# Altium integrated library Analog Devices RF IF Direct Digital Synthesis.IntLib: 76 symbols (part 7 of 9)
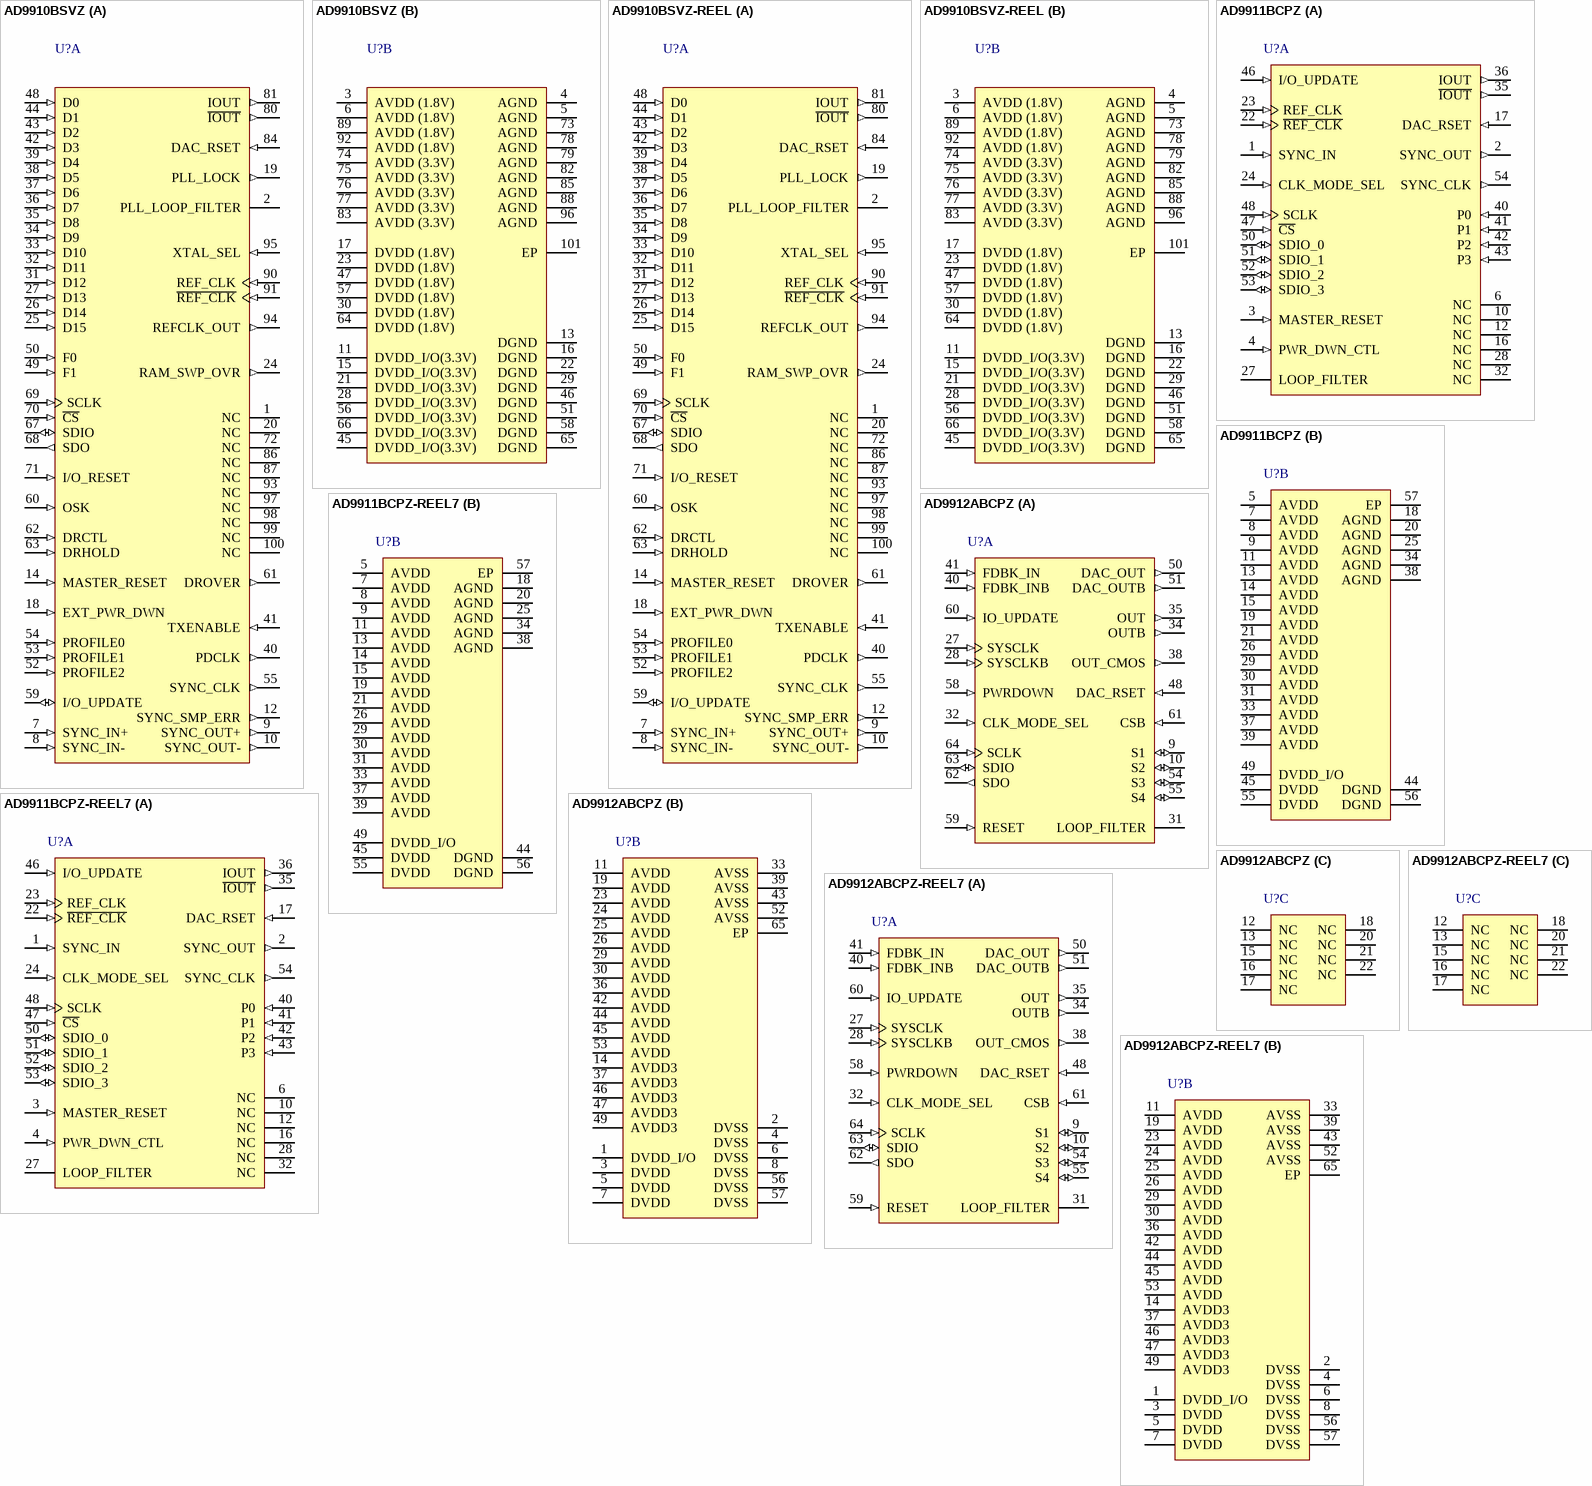
[diagram p11: symbols AD9910BSVZ to AD9912ABCPZ-REEL7]

## AD9911BCPZ-REEL7
designator U?
500 MSPS Direct Digital Synthesizer with 10-Bit DAC, Serial, CP-56-1, 750 Reel, Pb-Free; Master fclk: 500MHz; Resolution (Bits): 10bit; Tuning Word Width (bits): 32bit; REFCLK Multiplier: Yes; Compliance Range (V): 1.8V; FS Iout (mA nom): 10mA; I Supply total (max): 73mA; DatasheetVersion: Rev. 0; PackageVersion: 112805-0; PackageReference: CP-56-1; PackageDescription: 56-Lead Lead Frame Chip Scale Package [LFCSP_VQ]; I/O Interface: Serial; Code_JEDEC: MO-220-VLLD-2; ComponentLink1Description: Manufacturer URL; ComponentLink1URL: www.analog.com; ComponentLink2Description: Datasheet; ComponentLink2URL: http://www.analog.com/static/imported-files/data_sheets/AD9911.pdf; ComponentLink3Description: Package Specification; ComponentLink3URL: http://www.analog.com/static/imported-files/packages/32698137492825CP_56_1.pdf
footprint ADI-CP-56-1_N (QFN, 56-Leads, Body 8x8mm, Pitch 0.5mm, Thermal Pad 6.1x6.1mm, IPC Medium Density)
footprint ADI-CP-56-1_L (QFN, 56-Leads, Body 8x8mm, Pitch 0.5mm, Thermal Pad 6.1x6.1mm, IPC High Density)
footprint ADI-CP-56-1_M (QFN, 56-Leads, Body 8x8mm, Pitch 0.5mm, Thermal Pad 6.1x6.1mm, IPC Low Density)
part A pins: 1 SYNC_IN (in) "Synchronizes Multiple AD9911 Devices. Connects to the SYNC_OUT pin of the master AD9911 device.", 2 SYNC_OUT (out) "Synchronizes Multiple AD9911 Devices. Connects to the SYNC_IN pin of the slave AD9911 device.", 3 MASTER_RESET (in) "Active High Reset Pin. Asserting this pin forces the internal registers to the default state shown in the Register Map section.", 4 PWR_DWN_CTL (in) "External Power-Down Control. See the Power Down Functions section for details.", 6 NC "No Connection. Analog Devices recommends leaving these pins floating.", 10 NC "No Connection. Analog Devices recommends leaving these pins floating.", 12 NC "No Connection. Analog Devices recommends leaving these pins floating.", 16 NC "No Connection. Analog Devices recommends leaving these pins floating.", 17 DAC_RSET (in) "Establishes the Reference Current for the DAC. A 1.91 k ohm resistor (nominal) is connected from Pin 17 to AGND.", 22 ~{REF_CLK} (in) "Complementary Reference Clock/Oscillator Input. When the REF_CLK is operated in single-ended mode, this pin should be decoupled to AVDD or AGND with a  0.1 uF capacitor.", 23 REF_CLK (in) "Reference Clock/Oscillator Input. When the REF_CLK operates in single-ended mode, Pin 23 is the input. See the Modes of Operation section for the reference clock configuration.", 24 CLK_MODE_SEL (in) "Control Pin for the Oscillator. CAUTION: Do not drive this pin beyond 1.8 V. When high (1.8 V), the oscillator is enabled to accept a crystal as the REF_CLK source. [see datasheet]", 27 LOOP_FILTER "Connects to the External Zero Compensation Network of the PLL Loop Filter. Typically, the network consists of a 0  ohm resistor in series with a 680 pF capacitor tied to AVDD.", 28 NC "No Connection. Analog Devices recommends leaving these pins floating.", 32 NC "No Connection. Analog Devices recommends leaving these pins floating.", 35 ~{IOUT} (out) "Complementary DAC Output. Terminates into AVDD.", 36 IOUT (out) "True DAC Output. Terminates into AVDD.", 40 P0 (in) "These data pins are used for modulation (FSK, PSK, ASK), start/stop for the sweep accumulator, and ramping up/down the output amplitude. [see datasheet]", 41 P1 (in) "These data pins are used for modulation (FSK, PSK, ASK), start/stop for the sweep accumulator, and ramping up/down the output amplitude. [see datasheet]", 42 P2 (in) "These data pins are used for modulation (FSK, PSK, ASK), start/stop for the sweep accumulator, and ramping up/down the output amplitude. [see datasheet]", 43 P3 (in) "These data pins are used for modulation (FSK, PSK, ASK), start/stop for the sweep accumulator, and ramping up/down the output amplitude. [see datasheet]", 46 I/O_UPDATE (in) "A rising edge triggers data transfer from the I/O port buffer to active registers. I/O_UPDATE is synchronous to the SYNC_CLK (Pin 54). [see datasheet]", 47 ~{CS} (in) "The active low chip select allows multiple devices to share a common I/O bus (SPI).", 48 SCLK (in) "Data Clock for I/O Operations. Data bits are written on the rising edge of SCLK and read on the falling edge of SCLK.", 50 SDIO_0 (io) "Data pin SDIO_0 is dedicated to the I/O port only.", 51 SDIO_1 (io) "Data pins SDIO_1:3 can be used for the I/O port or to initiate a ramp up/ramp down (RU/RD) of the DAC output amplitude.", 52 SDIO_2 (io) "Data pins SDIO_1:3 can be used for the I/O port or to initiate a ramp up/ramp down (RU/RD) of the DAC output amplitude.", 53 SDIO_3 (io) "Data pins SDIO_1:3 can be used for the I/O port or to initiate a ramp up/ramp down (RU/RD) of the DAC output amplitude.", 54 SYNC_CLK (out) "The SYNC_CLK, which runs at ?the system clock rate, can be disabled. I/O_UPDATE and profile changes (Pin 40 to Pin 43) are synchronous to the SYNC_CLK. [see datasheet]"
part B pins: 5 AVDD (power) "Analog Power Supply Pins (1.8 V).", 7 AVDD (power) "Analog Power Supply Pins (1.8 V).", 8 AVDD (power) "Analog Power Supply Pins (1.8 V).", 9 AVDD (power) "Analog Power Supply Pins (1.8 V).", 11 AVDD (power) "Analog Power Supply Pins (1.8 V).", 13 AVDD (power) "Analog Power Supply Pins (1.8 V).", 14 AVDD (power) "Analog Power Supply Pins (1.8 V).", 15 AVDD (power) "Analog Power Supply Pins (1.8 V).", 18 AGND (power) "Analog Ground Pins.", 19 AVDD (power) "Analog Power Supply Pins (1.8 V).", 20 AGND (power) "Analog Ground Pins.", 21 AVDD (power) "Analog Power Supply Pins (1.8 V).", 25 AGND (power) "Analog Ground Pins.", 26 AVDD (power) "Analog Power Supply Pins (1.8 V).", 29 AVDD (power) "Analog Power Supply Pins (1.8 V).", 30 AVDD (power) "Analog Power Supply Pins (1.8 V).", 31 AVDD (power) "Analog Power Supply Pins (1.8 V).", 33 AVDD (power) "Analog Power Supply Pins (1.8 V).", 34 AGND (power) "Analog Ground Pins.", 37 AVDD (power) "Analog Power Supply Pins (1.8 V).", 38 AGND (power) "Analog Ground Pins.", 39 AVDD (power) "Analog Power Supply Pins (1.8 V).", 44 DGND (power) "Digital Power Ground Pins.", 45 DVDD (power) "Digital Power Supply Pins (1.8 V).", 49 DVDD_I/O (power) "3.3 V Digital Power Supply for SPI Port and Digital I/O.", 55 DVDD (power) "Digital Power Supply Pins (1.8 V).", 56 DGND (power) "Digital Power Ground Pins.", 57 EP (power) "exposed pad"

## AD9912ABCPZ
designator U?
1 GSPS Direct Digital Synthesizer with 14-Bit DAC, Serial, CP-64-7, 260 Tray, Pb-Free; Master fclk: 1GHz; Resolution (Bits): 14bit; Tuning Word Width (bits): 48bit; REFCLK Multiplier: Yes; Compliance Range (V): 500mV; FS Iout (mA nom): 20mA; I Supply total (max): 394mA; DatasheetVersion: Rev. F; PackageVersion: 062209-A; PackageReference: CP-64-7; PackageDescription: 64-Lead Lead Frame Chip Scale Package [LFCSP_VQ]; I/O Interface: Serial; Code_JEDEC: MO-220-VMMD-4; ComponentLink1Description: Manufacturer URL; ComponentLink1URL: www.analog.com; ComponentLink2Description: Datasheet; ComponentLink2URL: http://www.analog.com/static/imported-files/data_sheets/AD9912.pdf; ComponentLink3Description: Package Specification; ComponentLink3URL: http://www.analog.com/static/imported-files/packages/PKG_PDF/LFCSP(CP)/CP_64_7.pdf
footprint ADI-CP-64-7_N (QFN, 64-Leads, Body 9x9mm, Pitch 0.5mm, Thermal Pad 5.2x5.2mm, IPC Medium Density)
footprint ADI-CP-64-7_L (QFN, 64-Leads, Body 9x9mm, Pitch 0.5mm, Thermal Pad 5.2x5.2mm, IPC High Density)
footprint ADI-CP-64-7_M (QFN, 64-Leads, Body 9x9mm, Pitch 0.5mm, Thermal Pad 5.2x5.2mm, IPC Low Density)
part A pins: 9 S1 (io) "Start-Up Configuration Pins. These pins are configured under program control and do not have internal pull-up/pull-down resistors.", 10 S2 (io) "Start-Up Configuration Pins. These pins are configured under program control and do not have internal pull-up/pull-down resistors.", 27 SYSCLK (in) "System Clock Input. The system clock input has internal dc biasing and should always be ac-coupled, except when using a crystal. [see datasheet]", 28 SYSCLKB (in) "Complementary System Clock. Complementary signal to the input provided on Pin 27. Use a 0.01 uF capacitor to ground on this pin if the signal provided on Pin 27 is single-ended", 31 LOOP_FILTER "System Clock Multiplier Loop Filter. When using the frequency multiplier to drive the system clock, an external loop filter must be constructed and attached to this pin. [see datasheet]", 32 CLK_MODE_SEL (in) "Clock Mode Select. Set to GND when connecting a crystal to the system clock input (Pin 27 and Pin 28). Pull up to 1.8 V when using either an oscillator or an external clock source. [see datasheet]", 34 OUTB (out) "Complementary HSTL Output. See the Specifications and Primary 1.8 V Differential HSTL Driver sections for details", 35 OUT (out) "HSTL Output. See the Specifications and Primary 1.8 V Differential HSTL Driver sections for details", 38 OUT_CMOS (out) "CMOS Output. See the Specifications section and the Output Clock Drivers and 2x Frequency Multiplier section. This pin is 1.8 V CMOS if Pin 37 is set to 1.8 V.", 40 FDBK_INB (in) "Complementary Feedback Input. When using the HSTL and CMOS outputs, this pin is connected to the filtered DAC_OUTB output. [see datasheet]", 41 FDBK_IN (in) "Feedback Input. In standard operating mode, this pin is connected to the filtered DAC_OUT output.", 48 DAC_RSET (in) "DAC Output Current Setting Resistor. Connect a resistor (usually 10 k ohm) from this pin to GND. See the Digital-To-Analog (DAC) Output section.", 50 DAC_OUT (out) "DAC Output. This signal should be filtered and sent back on-chip through the FDBK_IN input. This pin has an internal 50  ohm pull-down resistor", 51 DAC_OUTB (out) "Complementary DAC Output. This signal should be filtered and sent back on-chip through the FDBK_INB input. This pin has an internal 50  ohm pulldown resistor", 54 S3 (io) "Start-Up Configuration Pins. These pins are configured under program control and do not have internal pull-up/pull-down resistors", 55 S4 (io) "Start-Up Configuration Pins. These pins are configured under program control and do not have internal pull-up/pull-down resistors", 58 PWRDOWN (in) "Power-Down. When this active high pin is asserted, the device becomes inactive and enters the full power-down state. This pin has an internal  50 k ohm pull-down resistor", 59 RESET (in) "Chip Reset. When this active high pin is asserted, the chip goes into reset. Note that on power-up, a 10 µs reset pulse is internally generated when the power supplies reach a threshold and stabilize. [see datasheet]", 60 IO_UPDATE (in) "I/O Update. A logic transition from 0 to 1 on this pin transfers data from the I/O port registers to the control registers (see the Write section). [see datasheet]", 61 CSB (in) "Chip Select. Active low. When programming a device, this pin must be held low. In systems where more than one AD9912 is present, this pin enables individual programming of each AD9912. [see datasheet]", 62 SDO (out) "Serial Data Output. When the device is in 3-wire mode, data is read on this pin. There is no internal pull-up/pull-down resistor on this pin", 63 SDIO (io) "Serial Data Input/Output. When the device is in 3-wire mode, data is written via this pin. In 2-wire mode, data reads and writes both occur on this pin. [see datasheet]", 64 SCLK (in) "Serial Programming Clock. Data clock for serial programming. This pin has an internal 50 k ohm pull-down resistor"
part B pins: 1 DVDD_I/O (power) "I/O Digital Supply.", 2 DVSS (power) "Digital Ground. Connect to ground.", 3 DVDD (power) "Digital Supply", 4 DVSS (power) "Digital Ground. Connect to ground.", 5 DVDD (power) "Digital Supply", 6 DVSS (power) "Digital Ground. Connect to ground.", 7 DVDD (power) "Digital Supply", 8 DVSS (power) "Digital Ground. Connect to ground.", 11 AVDD (power) "Analog Supply. Connect to a nominal 1.8 V supply.", 14 AVDD3 (power) "Analog Supply. Connect to a nominal 3.3 V supply.", 19 AVDD (power) "Analog Supply. Connect to a nominal 3.3 V supply.", 23 AVDD (power) "Analog Supply. Connect to a nominal 3.3 V supply.", 24 AVDD (power) "Analog Supply. Connect to a nominal 3.3 V supply.", 25 AVDD (power) "Analog Supply. Connect to a nominal 3.3 V supply.", 26 AVDD (power) "Analog Supply. Connect to a nominal 3.3 V supply.", 29 AVDD (power) "Analog Supply. Connect to a nominal 1.8 V supply.", 30 AVDD (power) "Analog Supply. Connect to a nominal 1.8 V supply.", 33 AVSS (power) "Analog Ground. Connect to ground", 36 AVDD (power) "Analog Supply. Connect to a nominal 1.8 V supply.", 37 AVDD3 (power) "Analog Supply for CMOS Output Driver. This pin is normally 3.3 V but can be 1.8 V.", 39 AVSS (power) "Analog Ground. Connect to ground", 42 AVDD (power) "Analog Supply. Connect to a nominal 1.8 V supply.", 43 AVSS (power) "Analog Ground. Connect to ground", 44 AVDD (power) "Analog Supply. Connect to a nominal 1.8 V supply.", 45 AVDD (power) "Analog Supply. Connect to a nominal 1.8 V supply.", 46 AVDD3 (power) "Analog Supply. Connect to a nominal 3.3 V supply.", 47 AVDD3 (power) "Analog Supply. Connect to a nominal 3.3 V supply.", 49 AVDD3 (power) "Analog Supply. Connect to a nominal 3.3 V supply.", 52 AVSS (power) "Analog Ground. Connect to ground.", 53 AVDD (power) "Analog Supply. Connect to a nominal 1.8 V supply.", 56 DVSS (power) "Digital Ground. Connect to ground.", 57 DVSS (power) "Digital Ground. Connect to ground.", 65 EP (power) "Analog Ground. The exposed die pad on the bottom of the package provides the analog ground for the part; this exposed pad must be connected to ground for proper operation."
part C pins: 12 NC "No Connect. These unused pins can be left unconnected.", 13 NC "No Connect. These unused pins can be left unconnected.", 15 NC "No Connect. These unused pins can be left unconnected.", 16 NC "No Connect. These unused pins can be left unconnected.", 17 NC "No Connect. These unused pins can be left unconnected.", 18 NC "No Connect. These unused pins can be left unconnected.", 20 NC "No Connect. These unused pins can be left unconnected.", 21 NC "No Connect. These unused pins can be left unconnected.", 22 NC "No Connect. These unused pins can be left unconnected."

## AD9912ABCPZ-REEL7
designator U?
1 GSPS Direct Digital Synthesizer with 14-Bit DAC, Serial, CP-64-7, 750 Reel, Pb-Free; Master fclk: 1GHz; Resolution (Bits): 14bit; Tuning Word Width (bits): 48bit; REFCLK Multiplier: Yes; Compliance Range (V): 500mV; FS Iout (mA nom): 20mA; I Supply total (max): 394mA; DatasheetVersion: Rev. F; PackageVersion: 062209-A; PackageReference: CP-64-7; PackageDescription: 64-Lead Lead Frame Chip Scale Package [LFCSP_VQ]; I/O Interface: Serial; Code_JEDEC: MO-220-VMMD-4; ComponentLink1Description: Manufacturer URL; ComponentLink1URL: www.analog.com; ComponentLink2Description: Datasheet; ComponentLink2URL: http://www.analog.com/static/imported-files/data_sheets/AD9912.pdf; ComponentLink3Description: Package Specification; ComponentLink3URL: http://www.analog.com/static/imported-files/packages/PKG_PDF/LFCSP(CP)/CP_64_7.pdf
footprint ADI-CP-64-7_N (QFN, 64-Leads, Body 9x9mm, Pitch 0.5mm, Thermal Pad 5.2x5.2mm, IPC Medium Density)
footprint ADI-CP-64-7_L (QFN, 64-Leads, Body 9x9mm, Pitch 0.5mm, Thermal Pad 5.2x5.2mm, IPC High Density)
footprint ADI-CP-64-7_M (QFN, 64-Leads, Body 9x9mm, Pitch 0.5mm, Thermal Pad 5.2x5.2mm, IPC Low Density)
part A pins: 9 S1 (io) "Start-Up Configuration Pins. These pins are configured under program control and do not have internal pull-up/pull-down resistors.", 10 S2 (io) "Start-Up Configuration Pins. These pins are configured under program control and do not have internal pull-up/pull-down resistors.", 27 SYSCLK (in) "System Clock Input. The system clock input has internal dc biasing and should always be ac-coupled, except when using a crystal. [see datasheet]", 28 SYSCLKB (in) "Complementary System Clock. Complementary signal to the input provided on Pin 27. Use a 0.01 uF capacitor to ground on this pin if the signal provided on Pin 27 is single-ended", 31 LOOP_FILTER "System Clock Multiplier Loop Filter. When using the frequency multiplier to drive the system clock, an external loop filter must be constructed and attached to this pin. [see datasheet]", 32 CLK_MODE_SEL (in) "Clock Mode Select. Set to GND when connecting a crystal to the system clock input (Pin 27 and Pin 28). Pull up to 1.8 V when using either an oscillator or an external clock source. [see datasheet]", 34 OUTB (out) "Complementary HSTL Output. See the Specifications and Primary 1.8 V Differential HSTL Driver sections for details", 35 OUT (out) "HSTL Output. See the Specifications and Primary 1.8 V Differential HSTL Driver sections for details", 38 OUT_CMOS (out) "CMOS Output. See the Specifications section and the Output Clock Drivers and 2x Frequency Multiplier section. This pin is 1.8 V CMOS if Pin 37 is set to 1.8 V.", 40 FDBK_INB (in) "Complementary Feedback Input. When using the HSTL and CMOS outputs, this pin is connected to the filtered DAC_OUTB output. [see datasheet]", 41 FDBK_IN (in) "Feedback Input. In standard operating mode, this pin is connected to the filtered DAC_OUT output.", 48 DAC_RSET (in) "DAC Output Current Setting Resistor. Connect a resistor (usually 10 k ohm) from this pin to GND. See the Digital-To-Analog (DAC) Output section.", 50 DAC_OUT (out) "DAC Output. This signal should be filtered and sent back on-chip through the FDBK_IN input. This pin has an internal 50  ohm pull-down resistor", 51 DAC_OUTB (out) "Complementary DAC Output. This signal should be filtered and sent back on-chip through the FDBK_INB input. This pin has an internal 50  ohm pulldown resistor", 54 S3 (io) "Start-Up Configuration Pins. These pins are configured under program control and do not have internal pull-up/pull-down resistors", 55 S4 (io) "Start-Up Configuration Pins. These pins are configured under program control and do not have internal pull-up/pull-down resistors", 58 PWRDOWN (in) "Power-Down. When this active high pin is asserted, the device becomes inactive and enters the full power-down state. This pin has an internal  50 k ohm pull-down resistor", 59 RESET (in) "Chip Reset. When this active high pin is asserted, the chip goes into reset. Note that on power-up, a 10 µs reset pulse is internally generated when the power supplies reach a threshold and stabilize. [see datasheet]", 60 IO_UPDATE (in) "I/O Update. A logic transition from 0 to 1 on this pin transfers data from the I/O port registers to the control registers (see the Write section). [see datasheet]", 61 CSB (in) "Chip Select. Active low. When programming a device, this pin must be held low. In systems where more than one AD9912 is present, this pin enables individual programming of each AD9912. [see datasheet]", 62 SDO (out) "Serial Data Output. When the device is in 3-wire mode, data is read on this pin. There is no internal pull-up/pull-down resistor on this pin", 63 SDIO (io) "Serial Data Input/Output. When the device is in 3-wire mode, data is written via this pin. In 2-wire mode, data reads and writes both occur on this pin. [see datasheet]", 64 SCLK (in) "Serial Programming Clock. Data clock for serial programming. This pin has an internal 50 k ohm pull-down resistor"
part B pins: 1 DVDD_I/O (power) "I/O Digital Supply.", 2 DVSS (power) "Digital Ground. Connect to ground.", 3 DVDD (power) "Digital Supply", 4 DVSS (power) "Digital Ground. Connect to ground.", 5 DVDD (power) "Digital Supply", 6 DVSS (power) "Digital Ground. Connect to ground.", 7 DVDD (power) "Digital Supply", 8 DVSS (power) "Digital Ground. Connect to ground.", 11 AVDD (power) "Analog Supply. Connect to a nominal 1.8 V supply.", 14 AVDD3 (power) "Analog Supply. Connect to a nominal 3.3 V supply.", 19 AVDD (power) "Analog Supply. Connect to a nominal 3.3 V supply.", 23 AVDD (power) "Analog Supply. Connect to a nominal 3.3 V supply.", 24 AVDD (power) "Analog Supply. Connect to a nominal 3.3 V supply.", 25 AVDD (power) "Analog Supply. Connect to a nominal 3.3 V supply.", 26 AVDD (power) "Analog Supply. Connect to a nominal 3.3 V supply.", 29 AVDD (power) "Analog Supply. Connect to a nominal 1.8 V supply.", 30 AVDD (power) "Analog Supply. Connect to a nominal 1.8 V supply.", 33 AVSS (power) "Analog Ground. Connect to ground", 36 AVDD (power) "Analog Supply. Connect to a nominal 1.8 V supply.", 37 AVDD3 (power) "Analog Supply for CMOS Output Driver. This pin is normally 3.3 V but can be 1.8 V.", 39 AVSS (power) "Analog Ground. Connect to ground", 42 AVDD (power) "Analog Supply. Connect to a nominal 1.8 V supply.", 43 AVSS (power) "Analog Ground. Connect to ground", 44 AVDD (power) "Analog Supply. Connect to a nominal 1.8 V supply.", 45 AVDD (power) "Analog Supply. Connect to a nominal 1.8 V supply.", 46 AVDD3 (power) "Analog Supply. Connect to a nominal 3.3 V supply.", 47 AVDD3 (power) "Analog Supply. Connect to a nominal 3.3 V supply.", 49 AVDD3 (power) "Analog Supply. Connect to a nominal 3.3 V supply.", 52 AVSS (power) "Analog Ground. Connect to ground.", 53 AVDD (power) "Analog Supply. Connect to a nominal 1.8 V supply.", 56 DVSS (power) "Digital Ground. Connect to ground.", 57 DVSS (power) "Digital Ground. Connect to ground.", 65 EP (power) "Analog Ground. The exposed die pad on the bottom of the package provides the analog ground for the part; this exposed pad must be connected to ground for proper operation."
part C pins: 12 NC "No Connect. These unused pins can be left unconnected.", 13 NC "No Connect. These unused pins can be left unconnected.", 15 NC "No Connect. These unused pins can be left unconnected.", 16 NC "No Connect. These unused pins can be left unconnected.", 17 NC "No Connect. These unused pins can be left unconnected.", 18 NC "No Connect. These unused pins can be left unconnected.", 20 NC "No Connect. These unused pins can be left unconnected.", 21 NC "No Connect. These unused pins can be left unconnected.", 22 NC "No Connect. These unused pins can be left unconnected."

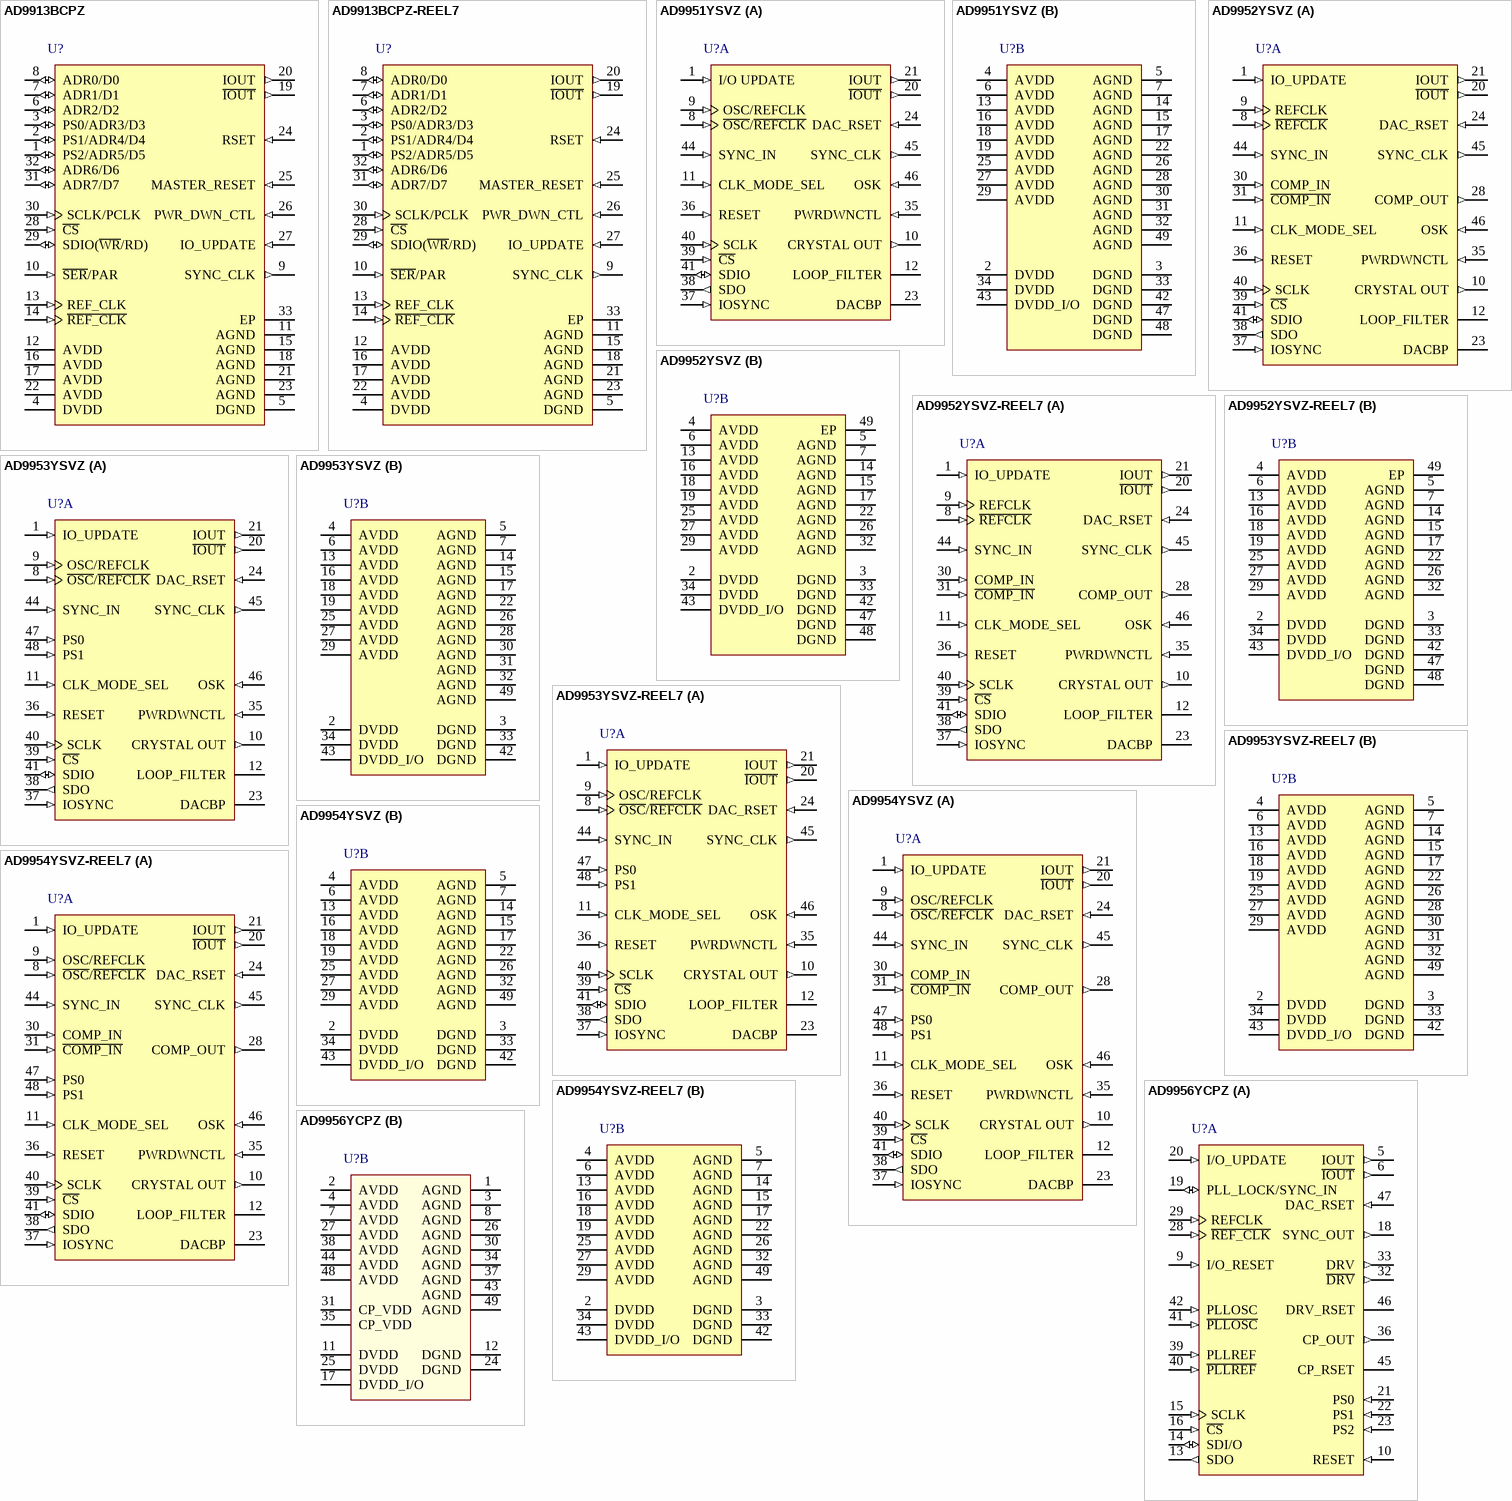
[diagram p4: symbols AD9913BCPZ to AD9956YCPZ]

## AD9913BCPZ
designator U?
Low Power 250 MSPS 10-Bit DAC 1.8 V CMOS Direct Digital Synthesizer, Parallel, Serial, CP-32-2, 490 Tray, Pb-Free; Master fclk: 250MHz; Resolution (Bits): 10bit; Tuning Word Width (bits): 32bit; REFCLK Multiplier: Yes; Compliance Range (V): 800mV; FS Iout (mA nom): 4.6mA; I Supply total (max): 63.5mA; DatasheetVersion: Rev. A; PackageVersion: Jan-2005; PackageReference: CP-32-2; PackageDescription: 32-Lead Lead Frame Chip Scale Package [LFCSP_VQ]; I/O Interface: Parallel, Serial; Code_JEDEC: MO-220-VHHD-2; ComponentLink1Description: Manufacturer URL; ComponentLink1URL: www.analog.com; ComponentLink2Description: Datasheet; ComponentLink2URL: http://www.analog.com/static/imported-files/data_sheets/AD9913.pdf; ComponentLink3Description: Package Specification; ComponentLink3URL: http://www.analog.com/static/imported-files/packages/414143737956480539664569CP_32_2.pdf
footprint ADI-CP-32-2_N (QFN, 32-Leads, Body 5x5mm, Pitch 0.5mm, Thermal Pad 3.1x3.1mm, IPC Medium Density)
footprint ADI-CP-32-2_L (QFN, 32-Leads, Body 5x5mm, Pitch 0.5mm, Thermal Pad 3.1x3.1mm, IPC High Density)
footprint ADI-CP-32-2_M (QFN, 32-Leads, Body 5x5mm, Pitch 0.5mm, Thermal Pad 3.1x3.1mm, IPC Low Density)
pins: 1 PS2/ADR5/D5 (io) "Multipurpose pin: Profile Select Pin (PS2) in Direct Switch Mode, Parallel Port Address Line (ADR5), and Data Line (D5) to program registers.", 2 PS1/ADR4/D4 (io) "Multipurpose pin: Profile Select Pin (PS1) in Direct Switch Mode or Linear Sweeping Mode, Parallel Port Address Line (ADR4), and Data Line (D4) to program registers.", 3 PS0/ADR3/D3 (io) "Multipurpose pin: Profile Select Pin (PS0) in Direct Switch Mode or Linear Sweeping Mode, Parallel Port Address Line (ADR3), and Data Line (D3) to program registers.", 4 DVDD (power) "Digital Power Supply (1.8 V).", 5 DGND (power) "Digital Ground.", 6 ADR2/D2 (io) "Parallel Port Address Line 2 and Data Line 2.", 7 ADR1/D1 (io) "Parallel Port Address Line 1and Data Line 1.", 8 ADR0/D0 (io) "Parallel Port Address Line 0 and Data Line 0.", 9 SYNC_CLK (out) "Clock Out. The profile pins [PS0:PS2] and the IO_UPDATE pin (Pin 27) should be set up to the rising edge of this signal to maintain constant pipe line delay through the device.", 10 ~{SER}/PAR (in) "Serial Port and Parallel Port Selection. Logic low = serial mode; logic high = parallel mode.", 11 AGND (power) "Analog Ground.", 12 AVDD (power) "Analog Power Supply (1.8 V).", 13 REF_CLK (in) "Reference Clock Input. See the REF_CLK Overview section for more details.", 14 ~{REF_CLK} (in) "Complementary Reference Clock Input. See the REF_CLK Overview section for more details.", 15 AGND (power) "Analog Ground.", 16 AVDD (power) "Analog Power Supply (1.8 V).", 17 AVDD (power) "Analog Power Supply (1.8 V).", 18 AGND (power) "Analog Ground.", 19 ~{IOUT} (out) "Open Source DAC Complementary Output Source. Current mode. Connect through 50  ohm to AGND.", 20 IOUT (out) "Open Source DAC Output Source. Current mode. Connect through 50  ohm to AGND.", 21 AGND (power) "Analog Ground.", 22 AVDD (power) "Analog Power Supply (1.8 V).", 23 AGND (power) "Analog Ground.", 24 RSET (in) "Analog Reference. This pin programs the DAC output full-scale reference current. Attach a 4.64 k ohm resistor to AGND.", 25 MASTER_RESET (in) "Master Reset, Digital Input (Active High). This pin clears all memory elements and reprograms registers to default values.", 26 PWR_DWN_CTL (in) "External Power-Down, Digital Input (Active High). A high level on this pin initiates the currently programmed power-down mode. See the Power-Down Features section for further details. [see datasheet]", 27 IO_UPDATE (in) "I/O Update; Digital Input. A high on this pin indicates a transfer of the contents of the I/O buffers to the corresponding internal registers.", 28 ~{CS} (in) "Chip Select for Serial and Parallel Port. Digital input (active low). Bringing this pin low enables the AD9913 to detect serial (SCLK) or parallel (PCLK) clock rising/falling edges. [see datasheet]", 29 SDIO(~{WR}/RD) (io) "Bidirectional Data Line for Serial Port Operation and Write/Read Enable for Parallel Port Operation.", 30 SCLK/PCLK (in) "Input Clock for Serial and Parallel Port", 31 ADR7/D7 (io) "Parallel Port Address Line 7 and Data Line 7.", 32 ADR6/D6 (io) "Parallel Port Address Line 6 and Data Line 6.", 33 EP (power) "The EPAD should be soldered to ground"

## AD9913BCPZ-REEL7
designator U?
Low Power 250 MSPS 10-Bit DAC 1.8 V CMOS Direct Digital Synthesizer, Parallel, Serial, CP-32-2, 1500 Reel, Pb-Free; Master fclk: 250MHz; Resolution (Bits): 10bit; Tuning Word Width (bits): 32bit; REFCLK Multiplier: Yes; Compliance Range (V): 800mV; FS Iout (mA nom): 4.6mA; I Supply total (max): 63.5mA; DatasheetVersion: Rev. A; PackageVersion: Jan-2005; PackageReference: CP-32-2; PackageDescription: 32-Lead Lead Frame Chip Scale Package [LFCSP_VQ]; I/O Interface: Parallel, Serial; Code_JEDEC: MO-220-VHHD-2; ComponentLink1Description: Manufacturer URL; ComponentLink1URL: www.analog.com; ComponentLink2Description: Datasheet; ComponentLink2URL: http://www.analog.com/static/imported-files/data_sheets/AD9913.pdf; ComponentLink3Description: Package Specification; ComponentLink3URL: http://www.analog.com/static/imported-files/packages/414143737956480539664569CP_32_2.pdf
footprint ADI-CP-32-2_N (QFN, 32-Leads, Body 5x5mm, Pitch 0.5mm, Thermal Pad 3.1x3.1mm, IPC Medium Density)
footprint ADI-CP-32-2_L (QFN, 32-Leads, Body 5x5mm, Pitch 0.5mm, Thermal Pad 3.1x3.1mm, IPC High Density)
footprint ADI-CP-32-2_M (QFN, 32-Leads, Body 5x5mm, Pitch 0.5mm, Thermal Pad 3.1x3.1mm, IPC Low Density)
pins: 1 PS2/ADR5/D5 (io) "Multipurpose pin: Profile Select Pin (PS2) in Direct Switch Mode, Parallel Port Address Line (ADR5), and Data Line (D5) to program registers.", 2 PS1/ADR4/D4 (io) "Multipurpose pin: Profile Select Pin (PS1) in Direct Switch Mode or Linear Sweeping Mode, Parallel Port Address Line (ADR4), and Data Line (D4) to program registers.", 3 PS0/ADR3/D3 (io) "Multipurpose pin: Profile Select Pin (PS0) in Direct Switch Mode or Linear Sweeping Mode, Parallel Port Address Line (ADR3), and Data Line (D3) to program registers.", 4 DVDD (power) "Digital Power Supply (1.8 V).", 5 DGND (power) "Digital Ground.", 6 ADR2/D2 (io) "Parallel Port Address Line 2 and Data Line 2.", 7 ADR1/D1 (io) "Parallel Port Address Line 1and Data Line 1.", 8 ADR0/D0 (io) "Parallel Port Address Line 0 and Data Line 0.", 9 SYNC_CLK (out) "Clock Out. The profile pins [PS0:PS2] and the IO_UPDATE pin (Pin 27) should be set up to the rising edge of this signal to maintain constant pipe line delay through the device.", 10 ~{SER}/PAR (in) "Serial Port and Parallel Port Selection. Logic low = serial mode; logic high = parallel mode.", 11 AGND (power) "Analog Ground.", 12 AVDD (power) "Analog Power Supply (1.8 V).", 13 REF_CLK (in) "Reference Clock Input. See the REF_CLK Overview section for more details.", 14 ~{REF_CLK} (in) "Complementary Reference Clock Input. See the REF_CLK Overview section for more details.", 15 AGND (power) "Analog Ground.", 16 AVDD (power) "Analog Power Supply (1.8 V).", 17 AVDD (power) "Analog Power Supply (1.8 V).", 18 AGND (power) "Analog Ground.", 19 ~{IOUT} (out) "Open Source DAC Complementary Output Source. Current mode. Connect through 50  ohm to AGND.", 20 IOUT (out) "Open Source DAC Output Source. Current mode. Connect through 50  ohm to AGND.", 21 AGND (power) "Analog Ground.", 22 AVDD (power) "Analog Power Supply (1.8 V).", 23 AGND (power) "Analog Ground.", 24 RSET (in) "Analog Reference. This pin programs the DAC output full-scale reference current. Attach a 4.64 k ohm resistor to AGND.", 25 MASTER_RESET (in) "Master Reset, Digital Input (Active High). This pin clears all memory elements and reprograms registers to default values.", 26 PWR_DWN_CTL (in) "External Power-Down, Digital Input (Active High). A high level on this pin initiates the currently programmed power-down mode. See the Power-Down Features section for further details. [see datasheet]", 27 IO_UPDATE (in) "I/O Update; Digital Input. A high on this pin indicates a transfer of the contents of the I/O buffers to the corresponding internal registers.", 28 ~{CS} (in) "Chip Select for Serial and Parallel Port. Digital input (active low). Bringing this pin low enables the AD9913 to detect serial (SCLK) or parallel (PCLK) clock rising/falling edges. [see datasheet]", 29 SDIO(~{WR}/RD) (io) "Bidirectional Data Line for Serial Port Operation and Write/Read Enable for Parallel Port Operation.", 30 SCLK/PCLK (in) "Input Clock for Serial and Parallel Port", 31 ADR7/D7 (io) "Parallel Port Address Line 7 and Data Line 7.", 32 ADR6/D6 (io) "Parallel Port Address Line 6 and Data Line 6.", 33 EP (power) "The EPAD should be soldered to ground"

## AD9951YSVZ
designator U?
400 MSPS, 14-Bit, 1.8 V CMOS Direct Digital Synthesizer, Serial, SV-48-4, 250 Tray, Pb-Free; Master fclk: 400MHz; Resolution (Bits): 14bit; Tuning Word Width (bits): 32bit; REFCLK Multiplier: Yes; Compliance Range (V): 2.05V; FS Iout (mA nom): 10mA; DatasheetVersion: Rev. A; PackageVersion: 10/21/2005; PackageReference: SV-48-4; PackageDescription: 48-Lead Thin Quad Flat Package, Exposed Pad [TQFP_EP]; I/O Interface: Serial; Code_JEDEC: MS-026-ABC; ComponentLink1Description: Manufacturer URL; ComponentLink1URL: www.analog.com; ComponentLink2Description: Datasheet; ComponentLink2URL: http://www.analog.com/static/imported-files/data_sheets/AD9951.pdf; ComponentLink3Description: Package Specification; ComponentLink3URL: http://www.analog.com/static/imported-files/packages/PKG_PDF/TQFP_ED(SV)/SV_48_4.pdf
footprint ADI-SV-48-4_N (Thin QFP, 48-Leads, Body 7x7mm, Pitch 0.5mm, Thermal Pad 3.5x3.5mm, IPC Medium Density)
footprint ADI-SV-48-4_L (Thin QFP, 48-Leads, Body 7x7mm, Pitch 0.5mm, Thermal Pad 3.5x3.5mm, IPC High Density)
footprint ADI-SV-48-4_M (Thin QFP, 48-Leads, Body 7x7mm, Pitch 0.5mm, Thermal Pad 3.5x3.5mm, IPC Low Density)
part A pins: 1 I/O UPDATE (in) "The rising edge transfers the contents of the internal buffer memory to the I/O registers. This pin must be set up and held around the SYNC_CLK output signal.", 8 ~{OSC}/~{REFCLK} (in) "Complementary Reference Clock/Oscillator Input. When the REFCLK port is operated in singleended mode, REFCLKB should be decoupled to AVDD with a 0.1 uF capacitor.", 9 OSC/REFCLK (in) "Reference Clock/Oscillator Input. See Clock Input section for details on the OSCILLATOR/REFCLK operation.", 10 CRYSTAL OUT (out) "Output of the Oscillator Section.", 11 CLK_MODE_SEL (in) "Control Pin for the Oscillator Section. When high, the oscillator section is enabled. When low, the oscillator section is bypassed.", 12 LOOP_FILTER "This pin provides the connection for the external zero compensation network of the REFCLK multiplier’s PLL loop filter. [see datasheet]", 20 ~{IOUT} (out) "Complementary DAC Output. Should be biased through a resistor to AVDD, not AGND.", 21 IOUT (out) "DAC Output. Should be biased through a resistor to AVDD, not AGND.", 23 DACBP "DAC Band Gap Decoupling Pin. A 0.1 uF capacitor to AGND is recommended.", 24 DAC_RSET (in) "A resistor (3.92 k? nominal) connected from AGND to DAC_RSETestablishes the reference current for the DAC.", 35 PWRDWNCTL (in) "Input Pin Used as an External Power-Down Control (see Table 8 for details).", 36 RESET (in) "Active High Hardware Reset Pin. Assertion of the RESET pin forces the AD9951 to the initial state, as described in the I/O port register map.", 37 IOSYNC (in) "Asynchronous Active High Reset of the Serial Port Controller. When high, the current I/O operation is immediately terminated, enabling a new I/O operation to commence once IOSYNC is returned low. [see datasheet]", 38 SDO (out) "When operating the I/O port as a 3-wire serial port, this pin serves as the serial data output. When", 39 ~{CS} (in) "operated as a 2-wire serial port, this pin is unused and can be left unconnected.", 40 SCLK (in) "This pin functions as an active low chip select that allows multiple devices to share the I/O bus.", 41 SDIO (io) "When operating the I/O port as a 3-wire serial port, this pin serves as the serial data input, only. When operated as a 2-wire serial port, this pin is the bidirectional serial data pin.", 44 SYNC_IN (in) "Input Signal Used to Synchronize Multiple AD9951s. This input is connected to the SYNC_CLK output of a master AD9951.", 45 SYNC_CLK (out) "Clock Output Pin that Serves as a Synchronizer for External Hardware.", 46 OSK (in) "Input Pin Used to Control the Direction of the Shaped On-Off Keying Function when Programmed for Operation. OSK is synchronous to the SYNC_CLK pin. [see datasheet]"
part B pins: 2 DVDD (power) "Digital Power Supply Pins (1.8 V).", 3 DGND (power) "Digital Power Ground Pins.", 4 AVDD (power) "Analog Power Supply Pins (1.8 V).", 5 AGND (power) "Analog Power Ground Pins.", 6 AVDD (power) "Analog Power Supply Pins (1.8 V).", 7 AGND (power) "Analog Power Ground Pins.", 13 AVDD (power) "Analog Power Supply Pins (1.8 V).", 14 AGND (power) "Analog Power Ground Pins.", 15 AGND (power) "Analog Power Ground Pins.", 16 AVDD (power) "Analog Power Supply Pins (1.8 V).", 17 AGND (power) "Analog Power Ground Pins.", 18 AVDD (power) "Analog Power Supply Pins (1.8 V).", 19 AVDD (power) "Analog Power Supply Pins (1.8 V).", 22 AGND (power) "Analog Power Ground Pins.", 25 AVDD (power) "Analog Power Supply Pins (1.8 V).", 26 AGND (power) "Analog Power Ground Pins.", 27 AVDD (power) "Analog Power Supply Pins (1.8 V).", 28 AGND (power) "Analog Power Ground Pins.", 29 AVDD (power) "Analog Power Supply Pins (1.8 V).", 30 AGND (power) "Analog Power Ground Pins.", 31 AGND (power) "Analog Power Ground Pins.", 32 AGND (power) "Analog Power Ground Pins.", 33 DGND (power) "Digital Power Ground Pins.", 34 DVDD (power) "Digital Power Supply Pins (1.8 V).", 42 DGND (power) "Digital Power Ground Pins.", 43 DVDD_I/O (power) "Digital Power Supply (for I/O Cells Only, 3.3 V).", 47 DGND (power) "Digital Power Ground Pins.", 48 DGND (power) "Digital Power Ground Pins.", 49 AGND (power) "The exposed paddle on the bottom of the package is a ground connection for the DAC and must be attached to AGND in any board layout."

## AD9952YSVZ
designator U?
400 MSPS, 14-Bit, 1.8 V CMOS Direct Digital Synthesizer, Serial, SV-48-4, 250 Tray, Pb-Free; Master fclk: 400MHz; Resolution (Bits): 14bit; Tuning Word Width (bits): 32bit; REFCLK Multiplier: Yes; Compliance Range (V): 2.05V; FS Iout (mA nom): 10mA; DatasheetVersion: Rev. B; PackageVersion: 10/21/2005; PackageReference: SV-48-4; PackageDescription: 48-Lead Thin Quad Flat Package, Exposed Pad [TQFP_EP]; I/O Interface: Serial; Code_JEDEC: MS-026-ABC; ComponentLink1Description: Manufacturer URL; ComponentLink1URL: www.analog.com; ComponentLink2Description: Datasheet; ComponentLink2URL: http://www.analog.com/static/imported-files/data_sheets/AD9952.pdf; ComponentLink3Description: Package Specification; ComponentLink3URL: http://www.analog.com/static/imported-files/packages/PKG_PDF/TQFP_ED(SV)/SV_48_4.pdf
footprint ADI-SV-48-4_N (Thin QFP, 48-Leads, Body 7x7mm, Pitch 0.5mm, Thermal Pad 3.5x3.5mm, IPC Medium Density)
footprint ADI-SV-48-4_L (Thin QFP, 48-Leads, Body 7x7mm, Pitch 0.5mm, Thermal Pad 3.5x3.5mm, IPC High Density)
footprint ADI-SV-48-4_M (Thin QFP, 48-Leads, Body 7x7mm, Pitch 0.5mm, Thermal Pad 3.5x3.5mm, IPC Low Density)
part A pins: 1 IO_UPDATE (in) "The rising edge transfers the contents of the internal buffer memory to the I/O registers. This pin must be set up and held around the SYNC_CLK output signal.", 8 ~{REFCLK} (in) "Complementary Reference Clock/Oscillator Input. When the REFCLK port is operated in singleended mode,REFCLK should be decoupled to AVDD with a 0.1 uF capacitor.", 9 REFCLK (in) "Reference Clock/Oscillator Input. See the Clock Input section for details on the oscillator/REFCLK operation.", 10 CRYSTAL OUT (out) "Output of the Oscillator Section.", 11 CLK_MODE_SEL (in) "Control Pin for the Oscillator Section. When high, the oscillator section is enabled. When low, the oscillator section is bypassed.", 12 LOOP_FILTER "This pin provides the connection for the external zero compensation network of the REFCLK multiplier’s PLL loop filter. [see datasheet]", 20 ~{IOUT} (out) "Complementary DAC Output. Should be biased through a resistor to AVDD, not AGND.", 21 IOUT (out) "DAC Output. Should be biased through a resistor to AVDD, not AGND.", 23 DACBP "DAC Biasline Decoupling Pin. A 0.1 uF capacitor to AGND is recommended.", 24 DAC_RSET (in) "A resistor (3.92 k? nominal) connected from AGND to DAC_RSET establishes the reference current for the DAC.", 28 COMP_OUT (out) "Comparator Output.", 30 COMP_IN (in) "I Comparator Input", 31 ~{COMP_IN} (in) "Comparator Complementary Input.", 35 PWRDWNCTL (in) "Input Pin Used as an External Power-Down Control. See Table 7 for additional information.", 36 RESET (in) "Active High Hardware Reset Pin. Assertion of the RESET pin forces the AD9952 to the initial state, as described in the I/O port register map (see Table 5).", 37 IOSYNC (in) "Asynchronous Active High Reset of the Serial Port Controller. When high, the current I/O operation is immediately terminated, enabling a new I/O operation to commence once IOSYNC is returned low. [see datasheet]", 38 SDO (out) "When operating the I/O port as a 3-wire serial port, this pin serves as the serial data output. When operated as a 2-wire serial port, this pin is unused and can be left unconnected.", 39 ~{CS} (in) "This pin functions as an active low chip select that allows multiple devices to share the I/O bus", 40 SCLK (in) "This pin functions as the serial data clock for I/O operations.", 41 SDIO (io) "When operating the I/O port as a 3-wire serial port, this pin serves as the serial data input only. When operated as a 2-wire serial port, this pin is the bidirectional serial data pin.", 44 SYNC_IN (in) "Input signal used to synchronize multiple AD9952s. This input is connected to the SYNC_CLK output of a master AD9952.", 45 SYNC_CLK (out) "Clock output pin that serves as a synchronizer for external hardware.", 46 OSK (in) "Input pin used to control the direction of the shaped on-off keying function when programmed for operation. OSK is synchronous to the SYNC_CLK pin. [see datasheet]"
part B pins: 2 DVDD (power) "Digital Power Supply Pins (1.8 V).", 3 DGND (power) "Digital Power Ground Pins.", 4 AVDD (power) "Analog Power Supply Pins (1.8 V).", 5 AGND (power) "Analog Power Ground Pins.", 6 AVDD (power) "Analog Power Supply Pins (1.8 V).", 7 AGND (power) "Analog Power Ground Pins.", 13 AVDD (power) "Analog Power Supply Pins (1.8 V).", 14 AGND (power) "Analog Power Supply Pins (1.8 V).", 15 AGND (power) "Analog Power Ground Pins.", 16 AVDD (power) "Analog Power Supply Pins (1.8 V).", 17 AGND (power) "Analog Power Ground Pins.", 18 AVDD (power) "Analog Power Supply Pins (1.8 V).", 19 AVDD (power) "Analog Power Supply Pins (1.8 V).", 22 AGND (power) "Analog Power Ground Pins.", 25 AVDD (power) "Analog Power Supply Pins (1.8 V).", 26 AGND (power) "Analog Power Ground Pins.", 27 AVDD (power) "Analog Power Supply Pins (1.8 V).", 29 AVDD (power) "Analog Power Supply Pins (1.8 V).", 32 AGND (power) "Analog Power Ground Pins.", 33 DGND (power) "Digital Power Ground Pins.", 34 DVDD (power) "Digital Power Supply Pins (1.8 V).", 42 DGND (power) "Digital Power Ground Pins.", 43 DVDD_I/O (power) "Digital Power Supply. For I/O cells only, 3.3 V", 47 DGND (power) "Digital Power Ground Pins.", 48 DGND (power) "Digital Power Ground Pins.", 49 EP (power) "The exposed paddle on the bottom of the package is a ground connection for the DAC and must be attached to AGND in any board layout. [see datasheet]"

## AD9952YSVZ-REEL7
designator U?
400 MSPS, 14-Bit, 1.8 V CMOS Direct Digital Synthesizer, Serial, SV-48-4, 500 Reel, Pb-Free; Master fclk: 400MHz; Resolution (Bits): 14bit; Tuning Word Width (bits): 32bit; REFCLK Multiplier: Yes; Compliance Range (V): 2.05V; FS Iout (mA nom): 10mA; DatasheetVersion: Rev. B; PackageVersion: 10/21/2005; PackageReference: SV-48-4; PackageDescription: 48-Lead Thin Quad Flat Package, Exposed Pad [TQFP_EP]; I/O Interface: Serial; Code_JEDEC: MS-026-ABC; ComponentLink1Description: Manufacturer URL; ComponentLink1URL: www.analog.com; ComponentLink2Description: Datasheet; ComponentLink2URL: http://www.analog.com/static/imported-files/data_sheets/AD9952.pdf; ComponentLink3Description: Package Specification; ComponentLink3URL: http://www.analog.com/static/imported-files/packages/PKG_PDF/TQFP_ED(SV)/SV_48_4.pdf
footprint ADI-SV-48-4_N (Thin QFP, 48-Leads, Body 7x7mm, Pitch 0.5mm, Thermal Pad 3.5x3.5mm, IPC Medium Density)
footprint ADI-SV-48-4_L (Thin QFP, 48-Leads, Body 7x7mm, Pitch 0.5mm, Thermal Pad 3.5x3.5mm, IPC High Density)
footprint ADI-SV-48-4_M (Thin QFP, 48-Leads, Body 7x7mm, Pitch 0.5mm, Thermal Pad 3.5x3.5mm, IPC Low Density)
part A pins: 1 IO_UPDATE (in) "The rising edge transfers the contents of the internal buffer memory to the I/O registers. This pin must be set up and held around the SYNC_CLK output signal.", 8 ~{REFCLK} (in) "Complementary Reference Clock/Oscillator Input. When the REFCLK port is operated in singleended mode,REFCLK should be decoupled to AVDD with a 0.1 uF capacitor.", 9 REFCLK (in) "Reference Clock/Oscillator Input. See the Clock Input section for details on the oscillator/REFCLK operation.", 10 CRYSTAL OUT (out) "Output of the Oscillator Section.", 11 CLK_MODE_SEL (in) "Control Pin for the Oscillator Section. When high, the oscillator section is enabled. When low, the oscillator section is bypassed.", 12 LOOP_FILTER "This pin provides the connection for the external zero compensation network of the REFCLK multiplier’s PLL loop filter. [see datasheet]", 20 ~{IOUT} (out) "Complementary DAC Output. Should be biased through a resistor to AVDD, not AGND.", 21 IOUT (out) "DAC Output. Should be biased through a resistor to AVDD, not AGND.", 23 DACBP "DAC Biasline Decoupling Pin. A 0.1 uF capacitor to AGND is recommended.", 24 DAC_RSET (in) "A resistor (3.92 k? nominal) connected from AGND to DAC_RSET establishes the reference current for the DAC.", 28 COMP_OUT (out) "Comparator Output.", 30 COMP_IN (in) "I Comparator Input", 31 ~{COMP_IN} (in) "Comparator Complementary Input.", 35 PWRDWNCTL (in) "Input Pin Used as an External Power-Down Control. See Table 7 for additional information.", 36 RESET (in) "Active High Hardware Reset Pin. Assertion of the RESET pin forces the AD9952 to the initial state, as described in the I/O port register map (see Table 5).", 37 IOSYNC (in) "Asynchronous Active High Reset of the Serial Port Controller. When high, the current I/O operation is immediately terminated, enabling a new I/O operation to commence once IOSYNC is returned low. [see datasheet]", 38 SDO (out) "When operating the I/O port as a 3-wire serial port, this pin serves as the serial data output. When operated as a 2-wire serial port, this pin is unused and can be left unconnected.", 39 ~{CS} (in) "This pin functions as an active low chip select that allows multiple devices to share the I/O bus", 40 SCLK (in) "This pin functions as the serial data clock for I/O operations.", 41 SDIO (io) "When operating the I/O port as a 3-wire serial port, this pin serves as the serial data input only. When operated as a 2-wire serial port, this pin is the bidirectional serial data pin.", 44 SYNC_IN (in) "Input signal used to synchronize multiple AD9952s. This input is connected to the SYNC_CLK output of a master AD9952.", 45 SYNC_CLK (out) "Clock output pin that serves as a synchronizer for external hardware.", 46 OSK (in) "Input pin used to control the direction of the shaped on-off keying function when programmed for operation. OSK is synchronous to the SYNC_CLK pin. [see datasheet]"
part B pins: 2 DVDD (power) "Digital Power Supply Pins (1.8 V).", 3 DGND (power) "Digital Power Ground Pins.", 4 AVDD (power) "Analog Power Supply Pins (1.8 V).", 5 AGND (power) "Analog Power Ground Pins.", 6 AVDD (power) "Analog Power Supply Pins (1.8 V).", 7 AGND (power) "Analog Power Ground Pins.", 13 AVDD (power) "Analog Power Supply Pins (1.8 V).", 14 AGND (power) "Analog Power Supply Pins (1.8 V).", 15 AGND (power) "Analog Power Ground Pins.", 16 AVDD (power) "Analog Power Supply Pins (1.8 V).", 17 AGND (power) "Analog Power Ground Pins.", 18 AVDD (power) "Analog Power Supply Pins (1.8 V).", 19 AVDD (power) "Analog Power Supply Pins (1.8 V).", 22 AGND (power) "Analog Power Ground Pins.", 25 AVDD (power) "Analog Power Supply Pins (1.8 V).", 26 AGND (power) "Analog Power Ground Pins.", 27 AVDD (power) "Analog Power Supply Pins (1.8 V).", 29 AVDD (power) "Analog Power Supply Pins (1.8 V).", 32 AGND (power) "Analog Power Ground Pins.", 33 DGND (power) "Digital Power Ground Pins.", 34 DVDD (power) "Digital Power Supply Pins (1.8 V).", 42 DGND (power) "Digital Power Ground Pins.", 43 DVDD_I/O (power) "Digital Power Supply. For I/O cells only, 3.3 V", 47 DGND (power) "Digital Power Ground Pins.", 48 DGND (power) "Digital Power Ground Pins.", 49 EP (power) "The exposed paddle on the bottom of the package is a ground connection for the DAC and must be attached to AGND in any board layout. [see datasheet]"